# Altium footprint library VLCF5028T-221MR22-2.PcbLib: 1 footprints
Each footprint in its own frame and in the unit in brackets; x right, y up, seen from the top. Pads: shape width x height; smd on the part's side, far side on the other; paste and mask are expansions set on the pad; w line width, h text height; cw(c..) or ccw(c..) is an arc to the next point about the centre after c.
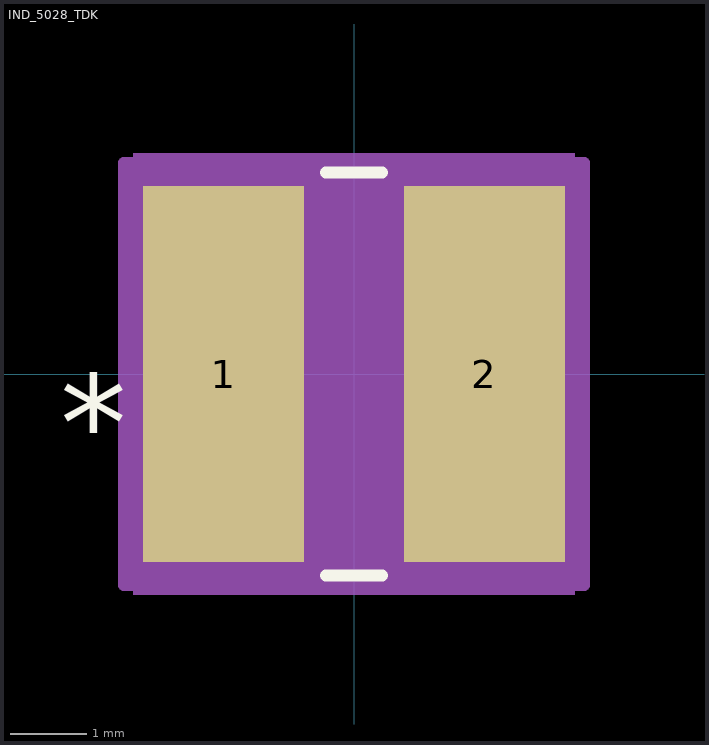
[diagram p0: the footprint, top view; thin cyan lines are the x and y axes]

## IND_5028_TDK [mm]
pads (2):
  rect 2.1x4.9 smd paste+0 mask+0: 1(-1.7,0) 2(1.7,0)
Top Overlay:
  lines w0.152: -0.368,-2.627 0.368,-2.627 ; -0.368,2.627 0.368,2.627
  text "*" at -3.834,-1.27 h1.27
Mechanical 5:
  region: -2.881,2.881 2.881,2.881 2.881,-2.881 -2.881,-2.881
Mechanical 13:
  lines w0.025: -2.5,-1.25 -1.25,-2.5 1.25,-2.5 2.5,-1.25 2.5,1.25 1.25,2.5 -1.25,2.5 -2.5,1.25 -2.5,-1.25
  text "*" at -2.31,-1.27 h1.27
Mechanical 15:
  region: 3.004,-2.754 -3.004,-2.754 -3.004,2.754 3.004,2.754
  lines w0.152: -3.004,-2.754 3.004,-2.754 3.004,2.754 -3.004,2.754 -3.004,-2.754
3D body: height 5, standoff 0, extent -2.921,-2.794 3.048,2.794
3D body: height 0.25, standoff 0, extent 0,0 0.254,0.254